# Altium schematic symbol library SCH - MCU - RENESAS - RENESAS R7FS7G27XXXXXXFP 100LQFP.SchLib: 1 symbol
Pins are listed as number, name and electrical type; pins without a type are passive.

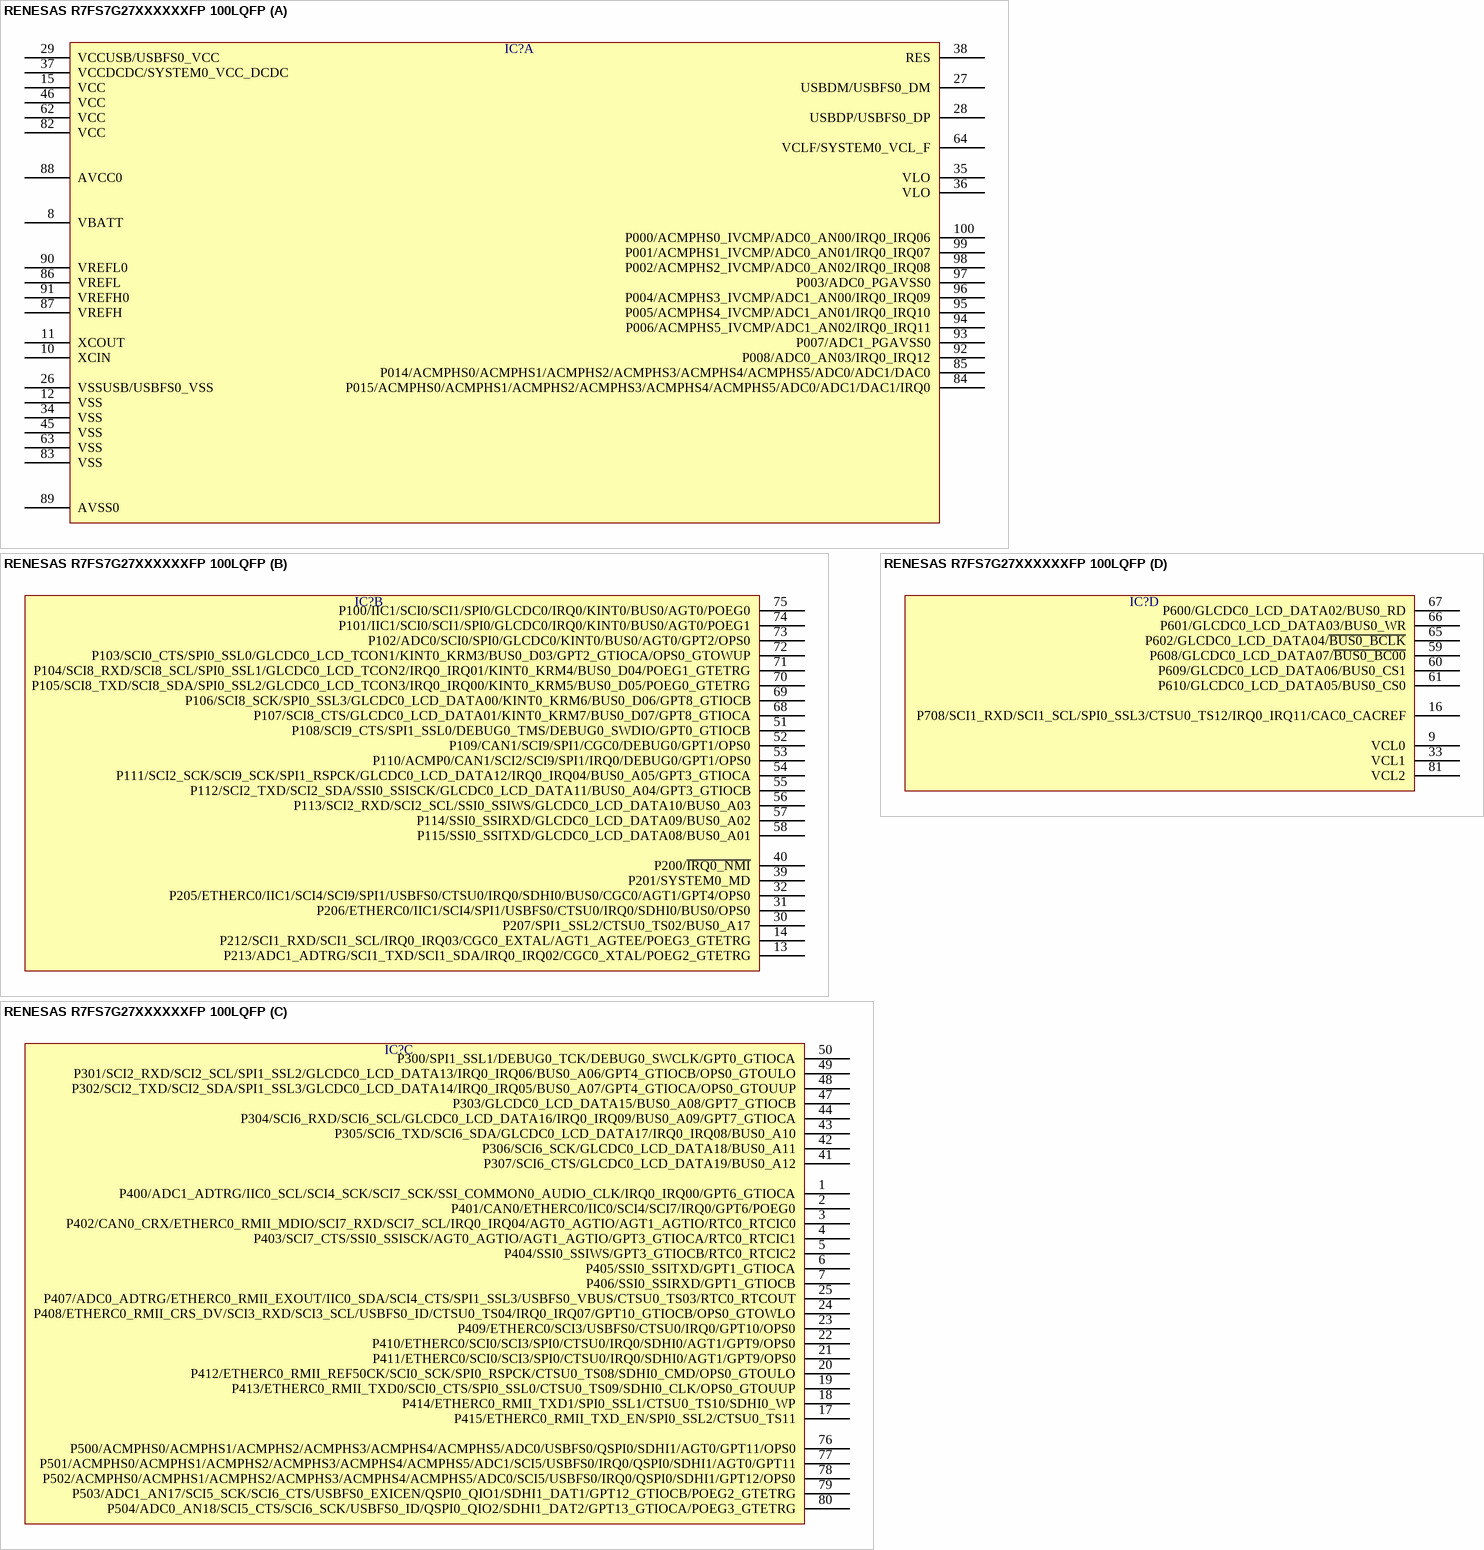
[diagram p0: symbol RENESAS R7FS7G27XXXXXXFP 100LQFP]

## RENESAS R7FS7G27XXXXXXFP 100LQFP
designator IC?  (value not drawn)
part A pins: 8 VBATT, 10 XCIN, 11 XCOUT, 12 VSS, 15 VCC, 26 VSSUSB/USBFS0_VSS, 27 USBDM/USBFS0_DM, 28 USBDP/USBFS0_DP, 29 VCCUSB/USBFS0_VCC, 34 VSS, 35 VLO, 36 VLO, 37 VCCDCDC/SYSTEM0_VCC_DCDC, 38 RES, 45 VSS, 46 VCC, 62 VCC, 63 VSS, 64 VCLF/SYSTEM0_VCL_F, 82 VCC, 83 VSS, 84 P015/ACMPHS0/ACMPHS1/ACMPHS2/ACMPHS3/ACMPHS4/ACMPHS5/ADC0/ADC1/DAC1/IRQ0, 85 P014/ACMPHS0/ACMPHS1/ACMPHS2/ACMPHS3/ACMPHS4/ACMPHS5/ADC0/ADC1/DAC0, 86 VREFL, 87 VREFH, 88 AVCC0, 89 AVSS0, 90 VREFL0, 91 VREFH0, 92 P008/ADC0_AN03/IRQ0_IRQ12, 93 P007/ADC1_PGAVSS0, 94 P006/ACMPHS5_IVCMP/ADC1_AN02/IRQ0_IRQ11, 95 P005/ACMPHS4_IVCMP/ADC1_AN01/IRQ0_IRQ10, 96 P004/ACMPHS3_IVCMP/ADC1_AN00/IRQ0_IRQ09, 97 P003/ADC0_PGAVSS0, 98 P002/ACMPHS2_IVCMP/ADC0_AN02/IRQ0_IRQ08, 99 P001/ACMPHS1_IVCMP/ADC0_AN01/IRQ0_IRQ07, 100 P000/ACMPHS0_IVCMP/ADC0_AN00/IRQ0_IRQ06
part B pins: 13 P213/ADC1_ADTRG/SCI1_TXD/SCI1_SDA/IRQ0_IRQ02/CGC0_XTAL/POEG2_GTETRG, 14 P212/SCI1_RXD/SCI1_SCL/IRQ0_IRQ03/CGC0_EXTAL/AGT1_AGTEE/POEG3_GTETRG, 30 P207/SPI1_SSL2/CTSU0_TS02/BUS0_A17, 31 P206/ETHERC0/IIC1/SCI4/SPI1/USBFS0/CTSU0/IRQ0/SDHI0/BUS0/OPS0, 32 P205/ETHERC0/IIC1/SCI4/SCI9/SPI1/USBFS0/CTSU0/IRQ0/SDHI0/BUS0/CGC0/AGT1/GPT4/OPS0, 39 P201/SYSTEM0_MD, 40 P200/~{IRQ0_NMI}, 51 P108/SCI9_CTS/SPI1_SSL0/DEBUG0_TMS/DEBUG0_SWDIO/GPT0_GTIOCB, 52 P109/CAN1/SCI9/SPI1/CGC0/DEBUG0/GPT1/OPS0, 53 P110/ACMP0/CAN1/SCI2/SCI9/SPI1/IRQ0/DEBUG0/GPT1/OPS0, 54 P111/SCI2_SCK/SCI9_SCK/SPI1_RSPCK/GLCDC0_LCD_DATA12/IRQ0_IRQ04/BUS0_A05/GPT3_GTIOCA, 55 P112/SCI2_TXD/SCI2_SDA/SSI0_SSISCK/GLCDC0_LCD_DATA11/BUS0_A04/GPT3_GTIOCB, 56 P113/SCI2_RXD/SCI2_SCL/SSI0_SSIWS/GLCDC0_LCD_DATA10/BUS0_A03, 57 P114/SSI0_SSIRXD/GLCDC0_LCD_DATA09/BUS0_A02, 58 P115/SSI0_SSITXD/GLCDC0_LCD_DATA08/BUS0_A01, 68 P107/SCI8_CTS/GLCDC0_LCD_DATA01/KINT0_KRM7/BUS0_D07/GPT8_GTIOCA, 69 P106/SCI8_SCK/SPI0_SSL3/GLCDC0_LCD_DATA00/KINT0_KRM6/BUS0_D06/GPT8_GTIOCB, 70 P105/SCI8_TXD/SCI8_SDA/SPI0_SSL2/GLCDC0_LCD_TCON3/IRQ0_IRQ00/KINT0_KRM5/BUS0_D05/POEG0_GTETRG, 71 P104/SCI8_RXD/SCI8_SCL/SPI0_SSL1/GLCDC0_LCD_TCON2/IRQ0_IRQ01/KINT0_KRM4/BUS0_D04/POEG1_GTETRG, 72 P103/SCI0_CTS/SPI0_SSL0/GLCDC0_LCD_TCON1/KINT0_KRM3/BUS0_D03/GPT2_GTIOCA/OPS0_GTOWUP, 73 P102/ADC0/SCI0/SPI0/GLCDC0/KINT0/BUS0/AGT0/GPT2/OPS0, 74 P101/IIC1/SCI0/SCI1/SPI0/GLCDC0/IRQ0/KINT0/BUS0/AGT0/POEG1, 75 P100/IIC1/SCI0/SCI1/SPI0/GLCDC0/IRQ0/KINT0/BUS0/AGT0/POEG0
part C pins: 1 P400/ADC1_ADTRG/IIC0_SCL/SCI4_SCK/SCI7_SCK/SSI_COMMON0_AUDIO_CLK/IRQ0_IRQ00/GPT6_GTIOCA, 2 P401/CAN0/ETHERC0/IIC0/SCI4/SCI7/IRQ0/GPT6/POEG0, 3 P402/CAN0_CRX/ETHERC0_RMII_MDIO/SCI7_RXD/SCI7_SCL/IRQ0_IRQ04/AGT0_AGTIO/AGT1_AGTIO/RTC0_RTCIC0, 4 P403/SCI7_CTS/SSI0_SSISCK/AGT0_AGTIO/AGT1_AGTIO/GPT3_GTIOCA/RTC0_RTCIC1, 5 P404/SSI0_SSIWS/GPT3_GTIOCB/RTC0_RTCIC2, 6 P405/SSI0_SSITXD/GPT1_GTIOCA, 7 P406/SSI0_SSIRXD/GPT1_GTIOCB, 17 P415/ETHERC0_RMII_TXD_EN/SPI0_SSL2/CTSU0_TS11, 18 P414/ETHERC0_RMII_TXD1/SPI0_SSL1/CTSU0_TS10/SDHI0_WP, 19 P413/ETHERC0_RMII_TXD0/SCI0_CTS/SPI0_SSL0/CTSU0_TS09/SDHI0_CLK/OPS0_GTOUUP, 20 P412/ETHERC0_RMII_REF50CK/SCI0_SCK/SPI0_RSPCK/CTSU0_TS08/SDHI0_CMD/OPS0_GTOULO, 21 P411/ETHERC0/SCI0/SCI3/SPI0/CTSU0/IRQ0/SDHI0/AGT1/GPT9/OPS0, 22 P410/ETHERC0/SCI0/SCI3/SPI0/CTSU0/IRQ0/SDHI0/AGT1/GPT9/OPS0, 23 P409/ETHERC0/SCI3/USBFS0/CTSU0/IRQ0/GPT10/OPS0, 24 P408/ETHERC0_RMII_CRS_DV/SCI3_RXD/SCI3_SCL/USBFS0_ID/CTSU0_TS04/IRQ0_IRQ07/GPT10_GTIOCB/OPS0_GTOWLO, 25 P407/ADC0_ADTRG/ETHERC0_RMII_EXOUT/IIC0_SDA/SCI4_CTS/SPI1_SSL3/USBFS0_VBUS/CTSU0_TS03/RTC0_RTCOUT, 41 P307/SCI6_CTS/GLCDC0_LCD_DATA19/BUS0_A12, 42 P306/SCI6_SCK/GLCDC0_LCD_DATA18/BUS0_A11, 43 P305/SCI6_TXD/SCI6_SDA/GLCDC0_LCD_DATA17/IRQ0_IRQ08/BUS0_A10, 44 P304/SCI6_RXD/SCI6_SCL/GLCDC0_LCD_DATA16/IRQ0_IRQ09/BUS0_A09/GPT7_GTIOCA, 47 P303/GLCDC0_LCD_DATA15/BUS0_A08/GPT7_GTIOCB, 48 P302/SCI2_TXD/SCI2_SDA/SPI1_SSL3/GLCDC0_LCD_DATA14/IRQ0_IRQ05/BUS0_A07/GPT4_GTIOCA/OPS0_GTOUUP, 49 P301/SCI2_RXD/SCI2_SCL/SPI1_SSL2/GLCDC0_LCD_DATA13/IRQ0_IRQ06/BUS0_A06/GPT4_GTIOCB/OPS0_GTOULO, 50 P300/SPI1_SSL1/DEBUG0_TCK/DEBUG0_SWCLK/GPT0_GTIOCA, 76 P500/ACMPHS0/ACMPHS1/ACMPHS2/ACMPHS3/ACMPHS4/ACMPHS5/ADC0/USBFS0/QSPI0/SDHI1/AGT0/GPT11/OPS0, 77 P501/ACMPHS0/ACMPHS1/ACMPHS2/ACMPHS3/ACMPHS4/ACMPHS5/ADC1/SCI5/USBFS0/IRQ0/QSPI0/SDHI1/AGT0/GPT11, 78 P502/ACMPHS0/ACMPHS1/ACMPHS2/ACMPHS3/ACMPHS4/ACMPHS5/ADC0/SCI5/USBFS0/IRQ0/QSPI0/SDHI1/GPT12/OPS0, 79 P503/ADC1_AN17/SCI5_SCK/SCI6_CTS/USBFS0_EXICEN/QSPI0_QIO1/SDHI1_DAT1/GPT12_GTIOCB/POEG2_GTETRG, 80 P504/ADC0_AN18/SCI5_CTS/SCI6_SCK/USBFS0_ID/QSPI0_QIO2/SDHI1_DAT2/GPT13_GTIOCA/POEG3_GTETRG
part D pins: 9 VCL0, 16 P708/SCI1_RXD/SCI1_SCL/SPI0_SSL3/CTSU0_TS12/IRQ0_IRQ11/CAC0_CACREF, 33 VCL1, 59 P608/GLCDC0_LCD_DATA07/~{BUS0_BC00}, 60 P609/GLCDC0_LCD_DATA06/BUS0_CS1, 61 P610/GLCDC0_LCD_DATA05/BUS0_CS0, 65 P602/GLCDC0_LCD_DATA04/~{BUS0_BCLK}, 66 P601/GLCDC0_LCD_DATA03/BUS0_WR, 67 P600/GLCDC0_LCD_DATA02/BUS0_RD, 81 VCL2